# EAGLE library part AP65552 (library matts)
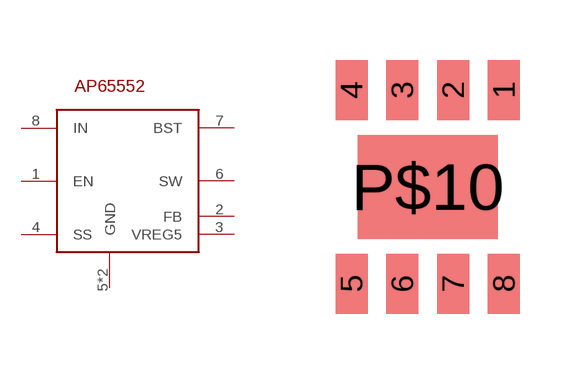
[diagram p0: symbol with the pads of SO-8EP; footprint SO-8EP]

Designator prefix -

## AP65552  [SO-8EP]
1  EN
2  FB
3  VREG5
4  SS
5  GND
6  SW
7  BST
8  IN
P$10  GND

## Footprint SO-8EP (pad centres in mm)
smd 0.8 x 1.5: 1 1.905,2.425; 2 0.635,2.425; 3 -0.635,2.425; 4 -1.905,2.425; 5 -1.905,-2.425; 6 -0.635,-2.425; 7 0.635,-2.425; 8 1.905,-2.425
smd 3.5 x 2.6: P$10 0,0